# Altium schematic symbol library 59453-061110ECHLF.SchLib: 1 symbol
Pins are listed as number, name and electrical type; pins without a type are passive.

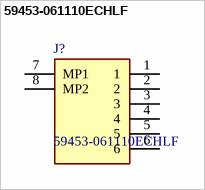
[diagram p0: symbol 59453-061110ECHLF]

## 59453-061110ECHLF
designator J?
0.50mm Flex Connectors, FPC/FFC Side Entry ZIF Connector, Surface Mount, 6 Positions, Bottom Contact, 0.50mm (0.020in) Pitch.; Manufacturer_Name: Amphenol Communications Solutions; Geometry.Height: 1mm; Manufacturer_Part_Number: 59453-061110ECHLF; Arrow Part Number: *; Arrow Price/Stock: *; Datasheet Link: https://cdn.amphenol-cs.com/media/wysiwyg/files/drawing/59453.pdf
footprint 59453061110ECHLF
pins: 1, 2, 3, 4, 5, 6, 7 MP1, 8 MP2